# EAGLE library part LTC3642 (library HyTechDevices)
Linear Technology High Efficiency Step-Down Converter Input Voltage Range: 4.5V - 45V Output Voltage: 5V (fixed) Output Current: 50 mA (max) Datasheet <http://cds.linear.com/docs/en/datasheet/3642fc.pdf>
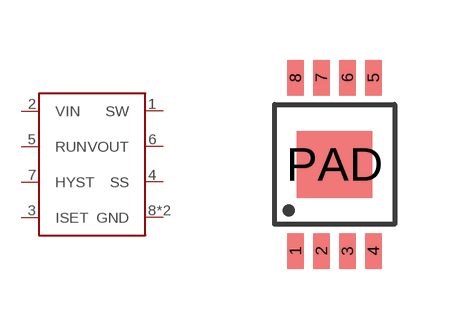
[diagram p71: symbol with the pads of MS8E; footprint MS8E]

Designator prefix -

## LTC3642  [MS8E]
1  SW
2  VIN
3  ISET
4  SS
5  RUN
6  VOUT
7  HYST
8  GND
PAD  GND

## Footprint MS8E (pad centres in mm)
smd 0.42 x 0.889: 1 -0.975,-2.171; 2 -0.325,-2.171; 3 0.325,-2.171; 4 0.975,-2.171; 5 0.975,2.171; 6 0.325,2.171; 7 -0.325,2.171; 8 -0.975,2.171
smd 1.88 x 1.68: PAD 0,0